# Altium schematic symbol library S3B-PH-K-S(LF)(SN).SchLib: 1 symbol
Pins are listed as number, name and electrical type; pins without a type are passive.

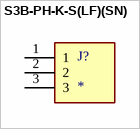
[diagram p0: symbol S3B-PH-K-S(LF)(SN)]

## S3B-PH-K-S(LF)(SN)
designator J?
Connector Header Through Hole, Right Angle 3 position 0.079" (2.00mm); MP: S3B-PH-K-S(LF)(SN); Price: None; Availability: Unavailable; Value: *; Package: None
pins: 1, 2, 3